# Altium footprint library Adafruit PyGamer.PCBLIB: 205 footprints (part 9 of 13)
Each footprint in its own frame and in the unit in brackets; x right, y up, seen from the top. Pads: shape width x height; smd on the part's side, far side on the other; paste and mask are expansions set on the pad; w line width, h text height; cw(c..) or ccw(c..) is an arc to the next point about the centre after c.
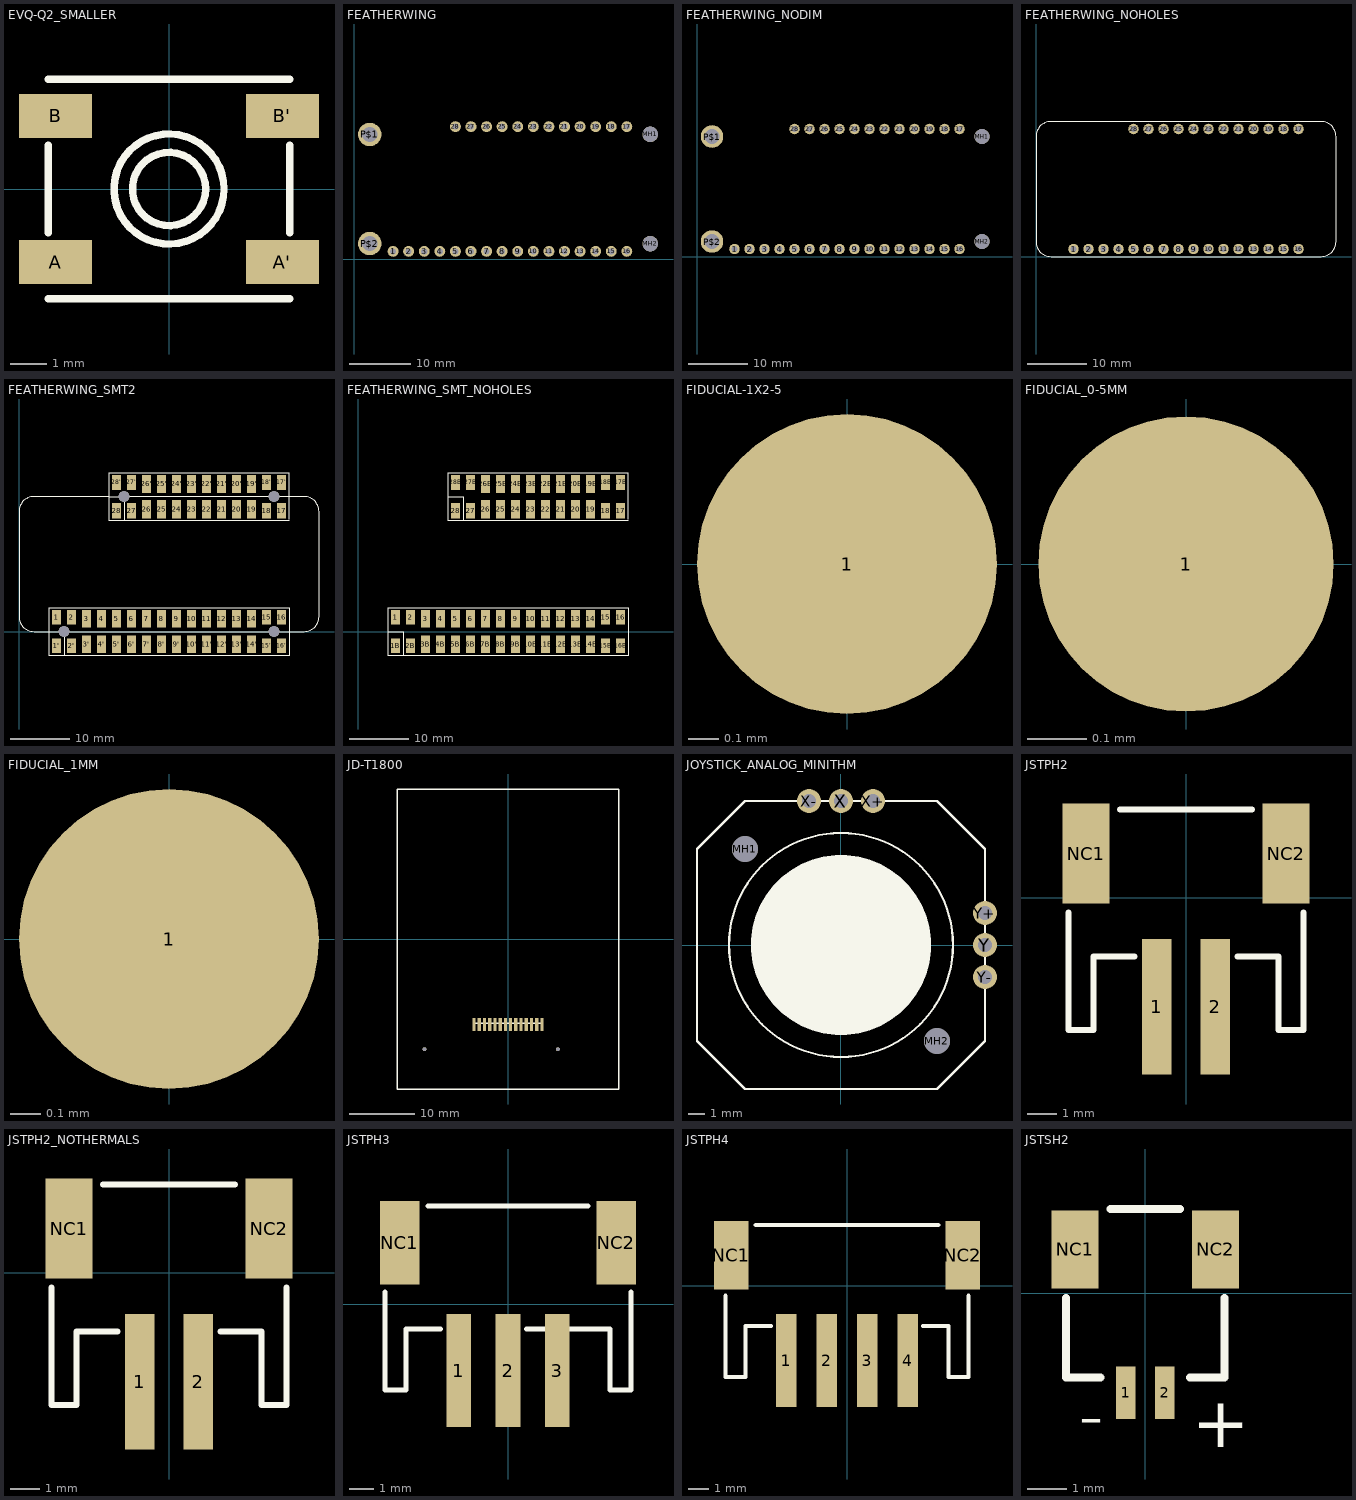
[diagram p8: the footprints below, top view; thin cyan lines are the x and y axes]

## EVQ-Q2_SMALLER [mm]
pads (4):
  rect 2x1.2 smd: A(-3.1,-2) A'(3.1,-2) B(-3.1,2) B'(3.1,2)
Top Overlay:
  circle w0.203: c0,0 r1.503
  circle w0.203: c0,0 r1
  lines w0.203: -3.3,-3 3.3,-3 ; -3.3,-1.2 -3.3,1.2 ; -3.3,3 3.3,3 ; 3.3,-1.2 3.3,1.2
Bottom Overlay:
  lines w0.127: -3.3,-3 -3.3,3 ; 3.3,-3 3.3,3

## FEATHERWING [mil]
pads (32):
  round 70 hole 39.37: 1(250,50) 2(350,50) 3(450,50) 4(550,50) 5(650,50) 6(750,50) 7(850,50) 8(950,50) 9(1050,50) 10(1150,50) 11(1250,50) 12(1350,50) 13(1450,50) 14(1550,50) 15(1650,50) 16(1750,50) 17(1750,850) 18(1650,850) 19(1550,850) 20(1450,850) 21(1350,850) 22(1250,850) 23(1150,850) 24(1050,850) 25(950,850) 26(850,850) 27(750,850) 28(650,850)
  round 100 hole 100 unplated: MH1(1900,800) MH2(1900,100)
  round 150 hole 98.43: P$1(100,800) P$2(100,100)

## FEATHERWING_NODIM [mil]
pads (32):
  round 70 hole 39.37: 1(250,50) 2(350,50) 3(450,50) 4(550,50) 5(650,50) 6(750,50) 7(850,50) 8(950,50) 9(1050,50) 10(1150,50) 11(1250,50) 12(1350,50) 13(1450,50) 14(1550,50) 15(1650,50) 16(1750,50) 17(1750,850) 18(1650,850) 19(1550,850) 20(1450,850) 21(1350,850) 22(1250,850) 23(1150,850) 24(1050,850) 25(950,850) 26(850,850) 27(750,850) 28(650,850)
  round 100 hole 100 unplated: MH1(1900,800) MH2(1900,100)
  round 150 hole 98.43: P$1(100,800) P$2(100,100)
Bottom Overlay:
  lines w0: 0,100 0,360 20,380 20,520 0,540 0,800 cw(c100,800) 100,900 1900,900 cw(c1900,800) 2000,800 2000,100 cw(c1900,100) 1900,0 100,0 cw(c100,100) 0,100

## FEATHERWING_NOHOLES [mil]
pads (28):
  round 70 hole 39.37: 1(250,50) 2(350,50) 3(450,50) 4(550,50) 5(650,50) 6(750,50) 7(850,50) 8(950,50) 9(1050,50) 10(1150,50) 11(1250,50) 12(1350,50) 13(1450,50) 14(1550,50) 15(1650,50) 16(1750,50) 17(1750,850) 18(1650,850) 19(1550,850) 20(1450,850) 21(1350,850) 22(1250,850) 23(1150,850) 24(1050,850) 25(950,850) 26(850,850) 27(750,850) 28(650,850)
Top Overlay:
  lines w0: 0,100 0,800 cw(c100,800) 100,900 1900,900 cw(c1900,800) 2000,800 2000,100 cw(c1900,100) 1900,0 100,0 cw(c100,100) 0,100

## FEATHERWING_SMT2 [mil]
pads (60):
  rect 60x100 smd: 1(250,95) 1'(250,-95) 2(350,95) 2'(350,-95) 15(1650,95) 15'(1650,-95) 16(1750,95) 16'(1750,-95) 17(1750,805) 17'(1750,995) 18(1650,805) 18'(1650,995) 27(750,805) 27'(750,995) 28(650,805) 28'(650,995)
  rect 60x120 smd: 3(450,85) 3'(450,-85) 4(550,85) 4'(550,-85) 5(650,85) 5'(650,-85) 6(750,85) 6'(750,-85) 7(850,85) 7'(850,-85) 8(950,85) 8'(950,-85) 9(1050,85) 9'(1050,-85) 10(1150,85) 10'(1150,-85) 11(1250,85) 11'(1250,-85) 12(1350,85) 12'(1350,-85) 13(1450,85) 13'(1450,-85) 14(1550,85) 14'(1550,-85) 19(1550,815) 19'(1550,985) 20(1450,815) 20'(1450,985) 21(1350,815) 21'(1350,985) 22(1250,815) 22'(1250,985) 23(1150,815) 23'(1150,985) 24(1050,815) 24'(1050,985) 25(950,815) 25'(950,985) 26(850,815) 26'(850,985)
  round 70.87 hole 70.87 unplated: MH1(700,900) MH2(1700,900) MH3(300,0) MH4(1700,0)
Top Overlay:
  lines w0: 200,0 100,0 cw(c100,100) 0,100 0,800 cw(c100,800) 100,900 600,900 ; 300,0 1900,0 ccw(c1900,100) 2000,100 2000,800 ccw(c1900,800) 1900,900 1800,900 700,900
  lines w8: 1800,740 700,740 ; 1800,750 1800,900 1800,1060 600,1060 600,900 ; 200,0 200,-160 300,-160 ; 200,0 200,160 1800,160 1800,-160 300,-160 ; 200,0 300,0 300,-160 ; 600,900 600,740 700,740 ; 600,900 700,900 700,740

## FEATHERWING_SMT_NOHOLES [mil]
pads (56):
  rect 60x100 smd: 1(250,95) 1B(250,-95) 2(350,95) 2B(350,-95) 15(1650,95) 15B(1650,-95) 16(1750,95) 16B(1750,-95) 17(1750,805) 17B(1750,995) 18(1650,805) 18B(1650,995) 27(750,805) 27B(750,995) 28(650,805) 28B(650,995)
  rect 60x120 smd: 3(450,85) 3B(450,-85) 4(550,85) 4B(550,-85) 5(650,85) 5B(650,-85) 6(750,85) 6B(750,-85) 7(850,85) 7B(850,-85) 8(950,85) 8B(950,-85) 9(1050,85) 9B(1050,-85) 10(1150,85) 10B(1150,-85) 11(1250,85) 11B(1250,-85) 12(1350,85) 12B(1350,-85) 13(1450,85) 13B(1450,-85) 14(1550,85) 14B(1550,-85) 19(1550,815) 19B(1550,985) 20(1450,815) 20B(1450,985) 21(1350,815) 21B(1350,985) 22(1250,815) 22B(1250,985) 23(1150,815) 23B(1150,985) 24(1050,815) 24B(1050,985) 25(950,815) 25B(950,985) 26(850,815) 26B(850,985)
Top Overlay:
  lines w8: 1800,740 700,740 ; 1800,750 1800,1060 600,1060 600,900 ; 200,0 200,-160 300,-160 ; 200,0 200,160 1800,160 1800,-160 300,-160 ; 200,0 300,0 300,-160 ; 600,900 600,740 700,740 ; 600,900 700,900 700,740
Bottom Overlay:
  lines w0: 0,100 0,800 cw(c100,800) 100,900 1900,900 cw(c1900,800) 2000,800 2000,100 cw(c1900,100) 1900,0 100,0 cw(c100,100) 0,100

## FIDUCIAL-1X2-5 [mm]
pads (1):
  rrect100% 1x1 smd paste+0: 1(0,0)

## FIDUCIAL_0-5MM [mil]
pads (1):
  rrect100% 19.69x19.69 smd paste+0: 1(0,0)

## FIDUCIAL_1MM [mm]
pads (1):
  rrect100% 1x1 smd paste+0: 1(0,0)

## JD-T1800 [mm]
pads (16):
  rect 0.5x2 smd paste+0: 1(5.2,-13.1) 2(4.4,-13.1) 3(3.6,-13.1) 4(2.8,-13.1) 5(2,-13.1) 6(1.2,-13.1) 7(0.4,-13.1) 8(-0.4,-13.1) 9(-1.2,-13.1) 10(-2,-13.1) 11(-2.8,-13.1) 12(-3.6,-13.1) 13(-4.4,-13.1) 14(-5.2,-13.1)
  round 0.6 hole 0.6 unplated: MH1(-12.8,-16.9) MH2(7.65,-16.9)
Top Overlay:
  lines w0.203: -5.2,-12.9 5.2,-12.9 ; -17,-23 17,-23 17,23 -17,23 -17,-23
Bottom Overlay:
  lines w0.152: -14,-14.8 14,-14.8 14,20.2 -14,20.2 -14,-14.8

## JOYSTICK_ANALOG_MINITHM [mm]
pads (8):
  round 1.6 hole 1.6 unplated: MH1(-6,6) MH2(6,-6)
  round 1.5 hole 0.9: X(0,9) X+(2,9) X-(-2,9) Y(9,0) Y+(9,2) Y-(9,-2)
Top Overlay:
  circle w0.127: c0,0 r7
  region: 0,5.6 0.367,5.6 1.095,5.504 1.804,5.314 2.482,5.033 3.118,4.666 3.7,4.219 4.219,3.7 4.666,3.118 5.033,2.482 5.314,1.804 5.504,1.095 5.6,0.367 5.6,0 5.6,-0.367 5.504,-1.095 5.314,-1.804 5.033,-2.482 4.666,-3.118 4.219,-3.7 3.7,-4.219 3.118,-4.666 2.482,-5.033 1.804,-5.314 1.095,-5.504 0.367,-5.6 0,-5.6 -0.367,-5.6 -1.095,-5.504 -1.804,-5.314 -2.482,-5.033 -3.118,-4.666 -3.7,-4.219 -4.219,-3.7 -4.666,-3.118 -5.033,-2.482 -5.314,-1.804 -5.504,-1.095 -5.6,-0.367 -5.6,0 -5.6,0.367 -5.504,1.095 -5.314,1.804 -5.033,2.482 -4.666,3.118 -4.219,3.7 -3.7,4.219 -3.118,4.666 -2.482,5.033 -1.804,5.314 -1.095,5.504 -0.367,5.6 0,5.6
  lines w0.127: -9,-6 -6,-9 6,-9 9,-6 9,6 6,9 -6,9 -9,6 -9,-6

## JSTPH2 [mm]
pads (4):
  rect 1x4.6 smd: 1(-1,-3.7) 2(1,-3.7)
  rect 1.6x3.4 smd: NC1(-3.4,1.5) NC2(3.4,1.5)
Top Overlay:
  lines w0.203: -4,-0.5 -4,-4.5 -3.15,-4.5 -3.15,-2 -1.75,-2 ; -2.25,3 2.25,3 ; 1.75,-2 3.15,-2 3.15,-4.5 4,-4.5 4,-0.5
Bottom Overlay:
  lines w0.203: -4,-4.5 -4,3 4,3 4,-4.5 3.2,-4.5 3.2,-2 -3.2,-2 -3.2,-4.5 -4,-4.5

## JSTPH2_NOTHERMALS [mm]
pads (4):
  rect 1x4.6 smd: 1(-1,-3.7) 2(1,-3.7)
  rect 1.6x3.4 smd: NC1(-3.4,1.5) NC2(3.4,1.5)
Top Overlay:
  lines w0.203: -4,-0.5 -4,-4.5 -3.15,-4.5 -3.15,-2 -1.75,-2 ; -2.25,3 2.25,3 ; 1.75,-2 3.15,-2 3.15,-4.5 4,-4.5 4,-0.5
Bottom Overlay:
  lines w0.203: -4,-4.5 -4,3 4,3 4,-4.5 3.2,-4.5 3.2,-2 -3.2,-2 -3.2,-4.5 -4,-4.5

## JSTPH3 [mm]
pads (5):
  rect 1x4.6 smd: 1(-2,-2.7) 2(0,-2.7) 3(2,-2.7)
  rect 1.6x3.4 smd: NC1(-4.4,2.5) NC2(4.4,2.5)
Top Overlay:
  lines w0.203: -5,0.5 -5,-3.5 -4.15,-3.5 -4.15,-1 -2.75,-1 ; -3.25,4 3.25,4 ; 0.75,-1 4.15,-1 4.15,-3.5 5,-3.5 5,0.5
Bottom Overlay:
  lines w0.203: -5,-3.5 -5,4 5,4 5,-3.5 4.2,-3.5 4.2,-1 -4.2,-1 -4.2,-3.5 -5,-3.5

## JSTPH4 [mm]
pads (6):
  rect 1x4.6 smd: 1(-3,-3.7) 2(-1,-3.7) 3(1,-3.7) 4(3,-3.7)
  rect 1.7x3.4 smd: NC1(-5.7,1.5) NC2(5.7,1.5)
Top Overlay:
  lines w0.203: -6,-0.5 -6,-4.5 -5,-4.5 -5,-2 -3.75,-2 ; -4.5,3 4.5,3 ; 3.75,-2 5,-2 5,-4.5 6,-4.5 6,-0.5
Bottom Overlay:
  lines w0.203: -6,-4.5 -6,3 6,3 6,-4.5 5,-4.5 5,-2 -5,-2 -5,-4.5 -6,-4.5

## JSTSH2 [mm]
pads (4):
  rect 0.5x1.35 smd: 1(-0.5,-2.55) 2(0.5,-2.55)
  rect 1.2x2 smd: NC1(-1.8,1.125) NC2(1.8,1.125)
Top Overlay:
  lines w0.203: -2.032,-0.127 -2.032,-2.159 -1.143,-2.159 ; -0.889,2.159 0.889,2.159 ; 1.143,-2.159 2.032,-2.159 2.032,-0.127
  text "-" at -1.063,-2.404 h2.2
  text "+" at 2.683,-2.404 h2.2